# Altium footprint library CHIP.PcbLib: 43 footprints (part 1 of 3)
Each footprint in its own frame and in the unit in brackets; x right, y up, seen from the top. Pads: shape width x height; smd on the part's side, far side on the other; paste and mask are expansions set on the pad; w line width, h text height; cw(c..) or ccw(c..) is an arc to the next point about the centre after c.
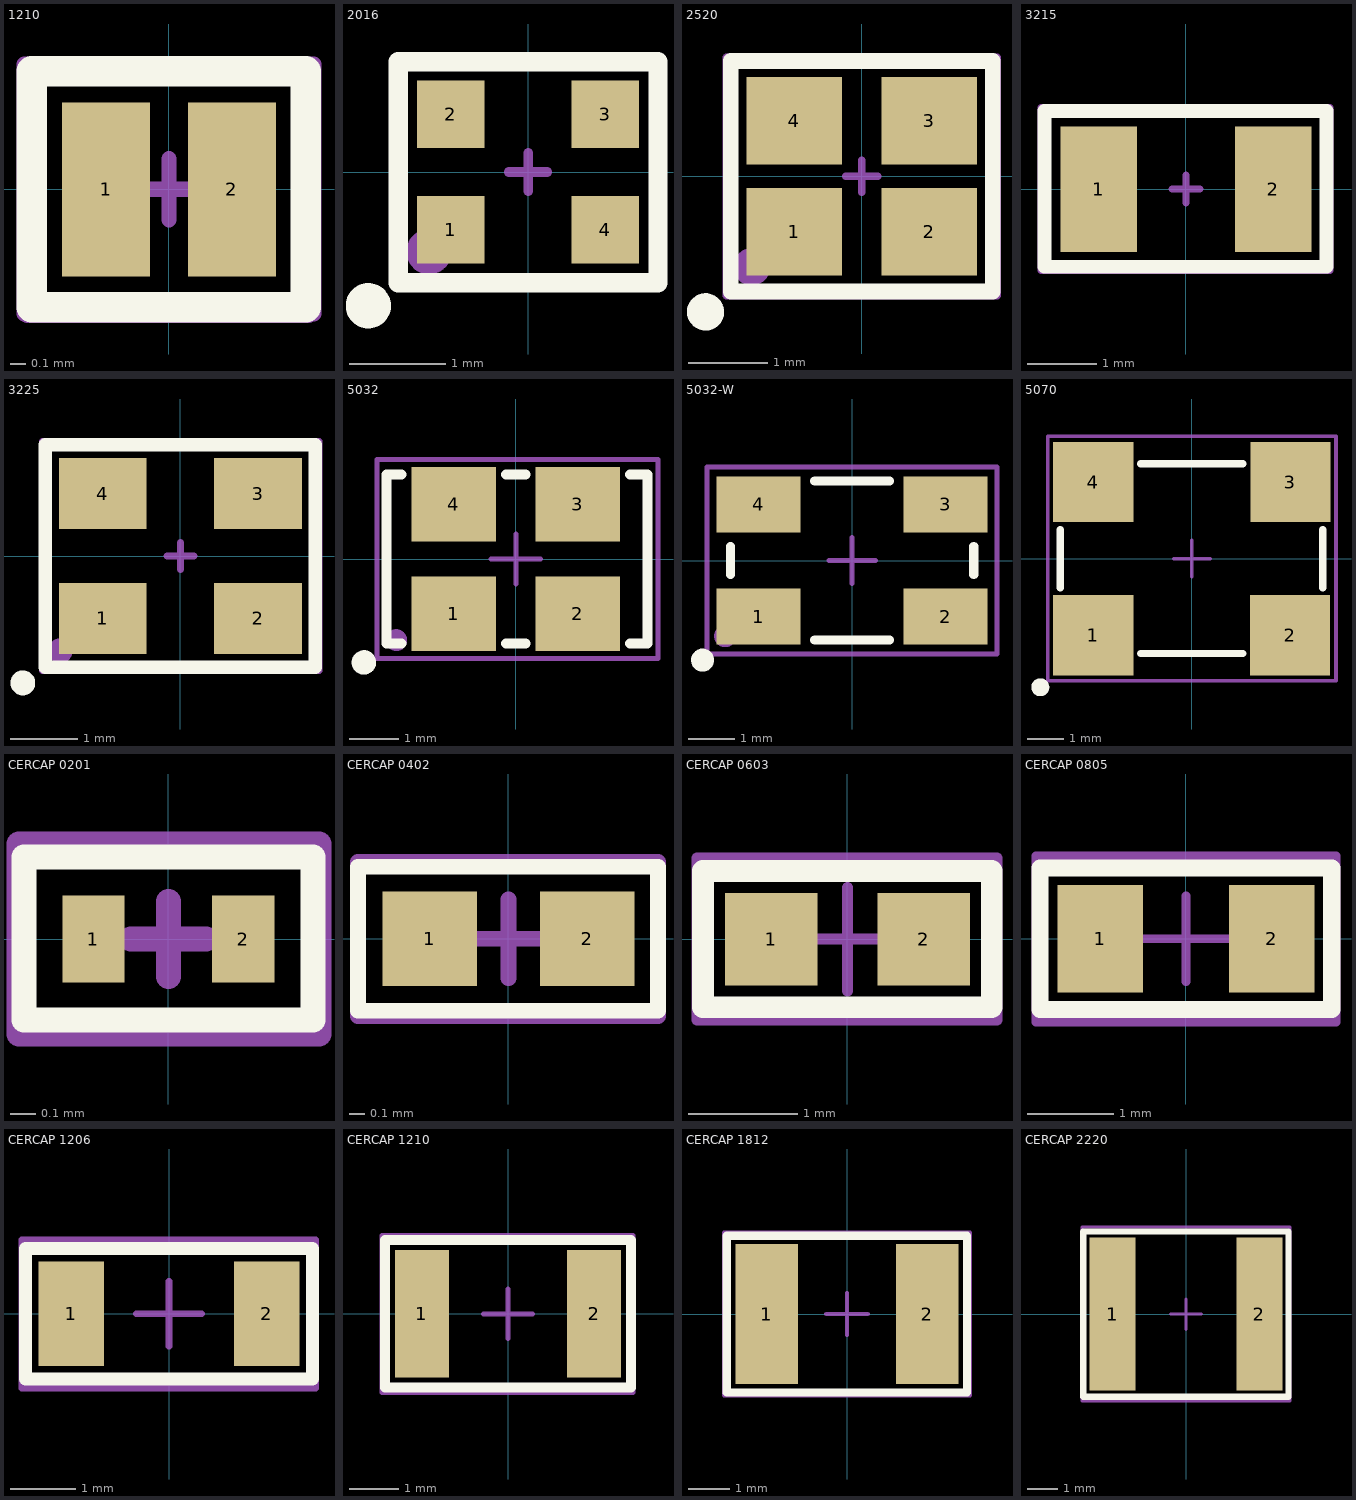
[diagram p0: the footprints below, top view; thin cyan lines are the x and y axes]

## 1210 [mm]
pads (2):
  rect 0.575x1.14 smd: 1(-0.412,0) 2(0.413,0)
Top Overlay:
  lines w0.2: -0.9,-0.771 -0.9,0.772 0.896,0.772 0.896,-0.771 -0.9,-0.771
Top Assembly:
  lines w0.1: -0.2,0 0.2,0 ; 0,-0.2 0,0.2 ; -0.948,-0.815 -0.948,0.82 0.949,0.82 0.949,-0.815 -0.948,-0.815
Top Courtyard (Mech15):
  lines w0.15: -0.923,-0.802 -0.923,0.796 0.911,0.796 0.911,-0.802 -0.923,-0.802

## 2016 [mm]
pads (4):
  rect 0.7x0.7 smd: 1(-0.8,-0.6) 2(-0.8,0.6) 3(0.8,0.6) 4(0.8,-0.6)
Top Overlay:
  circle w0.254: c-1.655,-1.386 r0.108
  lines w0.2: -1.344,-1.147 1.346,-1.147 1.346,1.142 -1.344,1.142 -1.344,-1.147
Top Assembly:
  circle w0.254: c-1.027,-0.825 r0.108
  lines w0.1: -0.2,0 0.2,0 ; 0,-0.2 0,0.2 ; -1.33,-1.136 -1.33,1.138 1.336,1.138 1.336,-1.136 -1.33,-1.136
Top Courtyard (Mech15):
  lines w0.1: -1.33,-1.136 -1.33,1.138 1.336,1.138 1.336,-1.136 -1.33,-1.136
3D body "User Library-XRCGB27M000F2P00R0.STEP": height 0.65, standoff 0, extent -1,-0.8 1,0.8

## 2520 [mm]
pads (4):
  rect 1.2x1.1 smd: 1(-0.85,-0.7) 2(0.85,-0.7) 3(0.85,0.7) 4(-0.85,0.7)
Top Overlay:
  circle w0.254: c-1.967,-1.708 r0.108
  lines w0.2: -1.65,-1.45 1.65,-1.45 1.65,1.45 -1.65,1.45 -1.65,-1.45
Top Assembly:
  circle w0.254: c-1.386,-1.14 r0.108
  lines w0.1: -0.2,0 0.2,0 ; 0,-0.2 0,0.2 ; -1.701,-1.499 -1.701,1.495 1.703,1.495 1.703,-1.499 -1.701,-1.499
Top Courtyard (Mech15):
  lines w0.1: -1.701,-1.499 1.703,-1.499 1.703,1.495 -1.701,1.495 -1.701,-1.499
3D body "User Library-Crystal NDK NX2520SA series.STEP": height 0.55, standoff 0, extent -1.3,-1.05 1.3,1.05

## 3215 [mm]
pads (2):
  rect 1.1x1.8 smd: 1(-1.25,0) 2(1.25,0)
Top Overlay:
  lines w0.2: -2.027,-1.112 2.016,-1.112 2.016,1.123 -2.027,1.123 -2.027,-1.112
Top Assembly:
  lines w0.1: -0.2,0 0.2,0 ; 0,-0.2 0,0.2 ; -2.076,-1.165 2.066,-1.165 2.066,1.17 -2.076,1.17 -2.076,-1.165
Top Courtyard (Mech15):
  lines w0.1: -2.076,-1.165 -2.076,1.17 2.066,1.17 2.066,-1.165 -2.076,-1.165
3D body "User Library-ABS07.STEP": height 0.91, standoff 0, extent -1.61,-0.76 1.61,0.76

## 3225 [mm]
height 0.55
pads (4):
  rect 1.3x1.05 smd: 1(-1.15,-0.925) 2(1.15,-0.925) 3(1.15,0.925) 4(-1.15,0.925)
Top Overlay:
  circle w0.254: c-2.335,-1.879 r0.057
  lines w0.2: -2,-1.65 -2,1.65 2,1.65 2,-1.65 -2,-1.65
Top Assembly:
  circle w0.254: c-1.781,-1.405 r0.057
  lines w0.1: -0.2,0 0.2,0 ; 0,-0.2 0,0.2 ; -2.048,-1.7 2.052,-1.7 2.052,1.7 2,1.7 -2.048,1.7 -2.048,-1.7
Top Courtyard (Mech15):
  lines w0.1: -2.048,-1.7 -2.048,1.7 2,1.7 2.052,1.7 2.052,-1.7 -2.048,-1.7
3D body "User Library-User Library-Siward_SX3225.step": height 0.81, standoff 0, extent -1.6,-1.25 1.6,1.25

## 5032 [mm]
pads (4):
  rect 1.7x1.5 smd: 1(-1.25,-1.1) 2(1.25,-1.1) 3(1.25,1.1) 4(-1.25,1.1)
Top Overlay:
  lines w0.2: -2.3,-1.7 -2.6,-1.7 -2.6,1.7 -2.3,1.7 ; -0.2,-1.7 0.2,-1.7 ; -0.2,1.7 0.2,1.7 ; 2.3,-1.7 2.65,-1.7 2.65,1.7 2.3,1.7
  lines w0.254: -2.94,-2.06 ccw(c-3.057,-2.08) -2.938,-2.077
Top Assembly:
  circle w0.254: c-2.407,-1.63 r0.092
  lines w0.1: -0.5,0 0.5,0 ; 0,-0.5 0,0.5 ; -2.797,-2 -2.797,2 2.862,2 2.862,-2 -2.797,-2
Top Courtyard (Mech15):
  lines w0.1: -2.797,-2 -2.797,2 2.862,2 2.862,-2 -2.797,-2
3D body "User Library-ASFL1.STEP": height 1.38, standoff 0.06, extent -2.473,-1.6 2.527,1.6

## 5032-W [mm]
pads (4):
  rect 1.8x1.2 smd: 1(-2,-1.2) 2(2,-1.2) 3(2,1.2) 4(-2,1.2)
Top Overlay:
  lines w0.2: -2.6,-0.3 -2.6,0.3 ; -0.8,-1.7 0.8,-1.7 ; -0.8,1.7 0.8,1.7 ; 2.6,-0.3 2.6,0.3
  lines w0.254: -3.081,-2.111 ccw(c-3.197,-2.131) -3.079,-2.129
Top Assembly:
  circle w0.254: c-2.714,-1.619 r0.108
  lines w0.1: -0.5,0 0.5,0 ; 0,-0.5 0,0.5 ; -3.1,-2 3.1,-2 3.1,2 -3.1,2 -3.1,-2
Top Courtyard (Mech15):
  lines w0.1: -3.1,-2 3.1,-2 3.1,2 -3.1,2 -3.1,-2
3D body "ABM3B.STEP": height 1.1, standoff -0.01, extent -2.5,-1.588 2.5,1.587

## 5070 [mm]
pads (4):
  rect 2.2x2.2 smd: 1(-2.705,-2.1) 2(2.695,-2.1) 3(2.705,2.1) 4(-2.705,2.1)
Top Overlay:
  lines w0.2: -3.605,-0.8 -3.605,0.8 ; -1.405,-2.6 1.395,-2.6 ; -1.405,2.6 1.395,2.6 ; 3.595,-0.8 3.595,0.8
  lines w0.254: -4.039,-3.51 ccw(c-4.156,-3.529) -4.037,-3.527
Top Assembly:
  circle w0.254: c-3.532,-2.954 r0.108
  lines w0.1: -0.5,0 0.5,0 ; 0,-0.5 0,0.5 ; -3.949,-3.35 3.956,-3.35 3.956,3.352 -3.949,3.352 -3.949,-3.35
Top Courtyard (Mech15):
  lines w0.1: -3.949,-3.35 -3.949,3.352 3.956,3.352 3.956,-3.35 -3.949,-3.35
3D body "User Library-50 MHz.STEP": height 1.51, standoff -0.01, extent -3.505,-2.5 3.495,2.5

## CERCAP 0201 [mm]
height 0.23
pads (2):
  rect 0.25x0.35 smd: 1(-0.3,0) 2(0.3,0)
Top Overlay:
  lines w0.1: -0.578,-0.324 0.579,-0.324 0.579,0.328 -0.578,0.328 -0.578,-0.324
Top Assembly:
  lines w0.1: -0.15,0 0.15,0 ; 0,-0.15 0,0.15 ; -0.598,-0.381 0.603,-0.381 0.603,0.381 -0.598,0.381 -0.598,-0.381
Top Courtyard (Mech15):
  lines w0.1: -0.598,-0.381 0.603,-0.381 0.603,0.381 -0.598,0.381 -0.598,-0.381
3D body "User Library-0201(0603M) Cap.STEP": height 0.31, standoff 0, extent -0.305,-0.152 0.305,0.152

## CERCAP 0402 [mm]
height 0.35
pads (2):
  rect 0.6x0.6 smd: 1(-0.5,0) 2(0.5,0)
Top Overlay:
  lines w0.1: -0.955,-0.457 0.95,-0.457 0.95,0.457 -0.955,0.457 -0.955,-0.457
Top Assembly:
  lines w0.1: -0.25,0 0.25,0 ; 0,-0.25 0,0.25 ; -0.955,-0.489 -0.955,0.488 0.95,0.488 0.95,-0.489 -0.955,-0.489
Top Courtyard (Mech15):
  lines w0.1: -0.955,-0.489 -0.955,0.488 0.95,0.488 0.95,-0.489 -0.955,-0.489
3D body "User Library-0402(1005M) Cap.step": height 0.51, standoff 0, extent -0.508,-0.254 0.508,0.254

## CERCAP 0603 [mm]
height 0.45
pads (2):
  rect 0.85x0.85 smd: 1(-0.7,0) 2(0.7,0)
Top Overlay:
  lines w0.2: -1.325,-0.625 -1.325,0.625 1.325,0.625 1.325,-0.625 -1.325,-0.625
Top Assembly:
  lines w0.1: -0.475,0 0.475,0 ; 0,-0.475 0,0.475 ; -1.381,-0.742 1.373,-0.742 1.373,0.744 -1.381,0.744 -1.381,-0.742
Top Courtyard (Mech15):
  lines w0.1: -1.381,-0.742 1.373,-0.742 1.373,0.744 -1.381,0.744 -1.381,-0.742
3D body "SW3dPS-0603 SMD Capacitor.STEP": height 0.3, standoff 0, extent -0.8,-0.4 0.8,0.4

## CERCAP 0805 [mm]
height 0.45
pads (2):
  rect 1x1.25 smd: 1(-1,0) 2(1,0)
Top Overlay:
  lines w0.2: -1.7,-0.825 -1.7,0.825 1.7,0.825 1.7,-0.825 -1.7,-0.825
Top Assembly:
  lines w0.1: -0.5,0 0.5,0 ; 0,-0.5 0,0.5 ; -1.749,-0.971 -1.749,0.965 1.749,0.965 1.749,-0.971 -1.749,-0.971
Top Courtyard (Mech15):
  lines w0.1: -1.749,-0.971 -1.749,0.965 1.749,0.965 1.749,-0.971 -1.749,-0.971
3D body "SW3dPS-0805 SMD Capacitor.STEP": height 0.78, standoff 0, extent -1,-0.625 1,0.625

## CERCAP 1206 [mm]
height 0.6
pads (2):
  rect 1x1.6 smd: 1(-1.5,0) 2(1.5,0)
Top Overlay:
  lines w0.2: -2.2,-1 2.2,-1 2.2,1 -2.2,1 -2.2,-1
Top Assembly:
  lines w0.1: -0.5,0 0.5,0 ; 0,-0.5 0,0.5 ; -2.254,-1.143 -2.254,1.138 2.247,1.138 2.247,-1.143 -2.254,-1.143
Top Courtyard (Mech15):
  lines w0.1: -2.254,-1.143 -2.254,1.138 2.247,1.138 2.247,-1.143 -2.254,-1.143
3D body "SW3dPS-1206 SMD Capacitor.STEP": height 1, standoff 0, extent -1.6,-0.8 1.6,0.8

## CERCAP 1210 [mm]
height 2.5
pads (2):
  rect 1.1x2.6 smd: 1(-1.75,0) 2(1.75,0)
Top Overlay:
  lines w0.2: -2.5,-1.5 -2.5,1.5 2.5,1.5 2.5,-1.5 -2.5,-1.5
Top Assembly:
  lines w0.1: -0.5,0 0.5,0 ; 0,-0.5 0,0.5 ; -2.564,-1.605 -2.564,1.597 2.545,1.597 2.545,-1.605 -2.564,-1.605
Top Courtyard (Mech15):
  lines w0.1: -2.564,-1.605 2.545,-1.605 2.545,1.597 -2.564,1.597 -2.564,-1.605
3D body "User Library-1210(3225M) Cap.STEP": height 1.7, standoff 0, extent -2,-1.245 2,1.245

## CERCAP 1812 [mm]
height 1.4
pads (2):
  rect 1.5x3.35 smd: 1(-1.925,0) 2(1.925,0)
Top Overlay:
  lines w0.2: -2.887,-1.885 2.882,-1.885 2.882,1.881 -2.887,1.881 -2.887,-1.885
Top Assembly:
  lines w0.1: -0.5,0 0.5,0 ; 0,-0.5 0,0.5 ; -2.95,-1.95 -2.95,1.95 2.95,1.95 2.95,-1.95 -2.95,-1.95
Top Courtyard (Mech15):
  lines w0.1: -2.95,-1.95 -2.95,1.95 2.95,1.95 2.95,-1.95 -2.95,-1.95
3D body "SW3dPS-1812 SMD Capacitor.STEP": height 1.6, standoff 0, extent -2.25,-1.6 2.25,1.6

## CERCAP 2220 [mm]
pads (2):
  rect 1.5x5 smd: 1(-2.4,0) 2(2.4,0)
Top Overlay:
  lines w0.2: -3.355,-2.699 3.348,-2.699 3.348,2.701 -3.355,2.701 -3.355,-2.699
Top Assembly:
  lines w0.1: -0.5,0 0.5,0 ; 0,-0.5 0,0.5 ; -3.4,-2.833 -3.4,-2 -3.4,2.843 3.4,2.843 3.4,-2.833 -3.4,-2.833
Top Courtyard (Mech15):
  lines w0.1: -3.4,-2.833 3.4,-2.833 3.4,2.843 -3.4,2.843 -3.4,-2 -3.4,-2.833
3D body "User Library-CAPC5750X23.STEP": height 2.3, standoff 0, extent -2.85,-2.5 2.85,2.5